# EAGLE library part A3959 (library allegro)
DMOS Full-Bridge PWM Motor Driver Handles PWM control of +/- 3A at up to 50V. Has internal circuit protection, thermal shutdown, undervoltage monitoring. Temp range -20 to 85 C
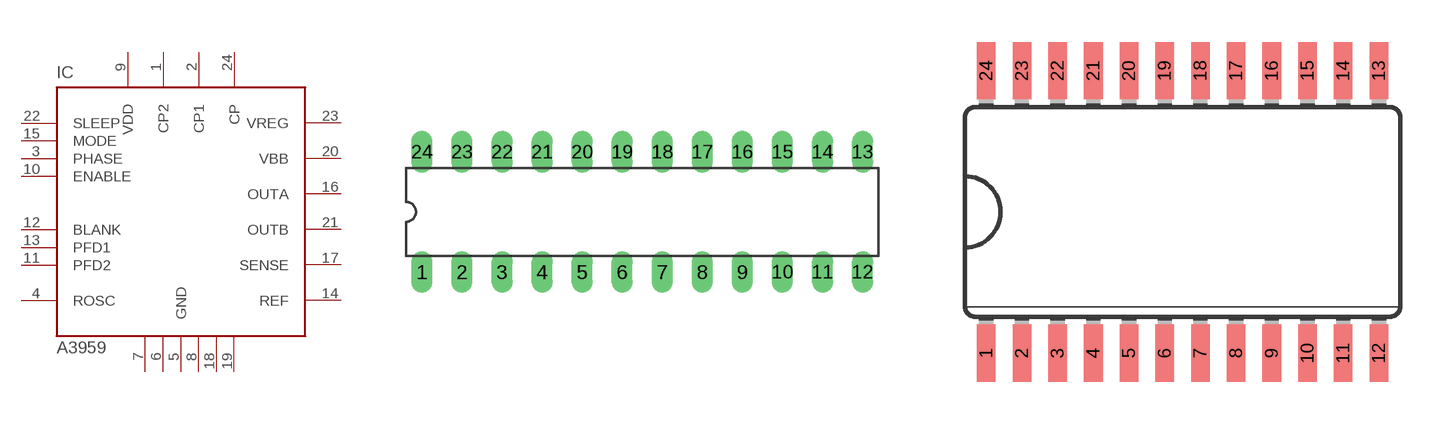
[diagram p12: symbol with the pads of DIL24-3; footprints DIL24-3, SO24L]

Designator prefix IC

## A3959SB  [DIL24-3]
1  CP2
2  CP1
3  PHASE  in
4  ROSC  in
5  GND  pwr
6  GND2  pwr
7  GND3  pwr
8  GND4  pwr
9  VDD  pwr
10  ENABLE  in
11  PFD2  in
12  BLANK  in
13  PFD1  in
14  REF  in
15  MODE  in
16  OUTA  out
17  SENSE  in
18  GND5  pwr
19  GND6  pwr
20  VBB  pwr
21  OUTB  out
22  SLEEP  in
23  VREG  out
24  CP

## A3959LB  [SO24L]
1  CP
2  CP1
3  CP2
4  PHASE  in
5  ROSC  in
6  GND  pwr
7  GND2  pwr
8  VDD  pwr
9  ENABLE  in
10  PFD2  in
11  BLANK  in
12  PFD1  in
13  REF  in
14  MODE  in
15  GND5  pwr
16  OUTA  out
17  SENSE  in
18  GND3  pwr
19  GND4  pwr
20  VBB  pwr
21  OUTB  out
22  SLEEP  in
23  VREG  out
24  GND6  pwr

## A3959LP  [TSSOP28]
1  CP
2  CP1
3  CP2
4  GND3  pwr
5  PHASE  in
6  ROSC  in
7  GND  pwr
8  GND2  pwr
9  VDD  pwr
10  ENABLE  in
12  PFD2  in
13  BLANK  in
14  PFD1  in
15  REF  in
16  MODE  in
18  OUTA  out
19  GND4  pwr
20  GND5  pwr
21  SENSE  in
23  VBB  pwr
24  OUTB  out
26  SLEEP  in
27  VREG  out
28  GND6  pwr

## Footprint DIL24-3 (pad centres in mm)
24-pin Dual Inline Package, 0.3" row spacing
drill 0.813 long: 1 -13.97,-3.81; 2 -11.43,-3.81; 3 -8.89,-3.81; 4 -6.35,-3.81; 5 -3.81,-3.81; 6 -1.27,-3.81; 7 1.27,-3.81; 8 3.81,-3.81; 9 6.35,-3.81; 10 8.89,-3.81; 11 11.43,-3.81; 12 13.97,-3.81; 13 13.97,3.81; 14 11.43,3.81; 15 8.89,3.81; 16 6.35,3.81; 17 3.81,3.81; 18 1.27,3.81; 19 -1.27,3.81; 20 -3.81,3.81; 21 -6.35,3.81; 22 -8.89,3.81; 23 -11.43,3.81; 24 -13.97,3.81

## Footprint SO24L (pad centres in mm)
24-pin Small Outline Package, wide
smd 0.66 x 2.032: 1 -6.985,-5.029; 2 -5.715,-5.029; 3 -4.445,-5.029; 4 -3.175,-5.029; 5 -1.905,-5.029; 6 -0.635,-5.029; 7 0.635,-5.029; 8 1.905,-5.029; 9 3.175,-5.029; 10 4.445,-5.029; 11 5.715,-5.029; 12 6.985,-5.029; 13 6.985,5.029; 14 5.715,5.029; 15 4.445,5.029; 16 3.175,5.029; 17 1.905,5.029; 18 0.635,5.029; 19 -0.635,5.029; 20 -1.905,5.029; 21 -3.175,5.029; 22 -4.445,5.029; 23 -5.715,5.029; 24 -6.985,5.029

## Footprint TSSOP28 (pad centres in mm)
28-pin Thin Shrink Small Outline Package
smd 0.305 x 0.991: 1 -4.225,-2.918; 2 -3.575,-2.918; 3 -2.925,-2.918; 4 -2.275,-2.918; 5 -1.625,-2.918; 6 -0.975,-2.918; 7 -0.325,-2.918; 8 0.325,-2.918; 9 0.975,-2.918; 10 1.625,-2.918; 11 2.275,-2.918; 12 2.925,-2.918; 13 3.575,-2.918; 14 4.225,-2.918; 15 4.225,2.918; 16 3.575,2.918; 17 2.925,2.918; 18 2.275,2.918; 19 1.625,2.918; 20 0.975,2.918; 21 0.325,2.918; 22 -0.325,2.918; 23 -0.975,2.918; 24 -1.625,2.918; 25 -2.275,2.918; 26 -2.925,2.918; 27 -3.575,2.918; 28 -4.225,2.918